# EAGLE library part 1G98 (library ic-TI)
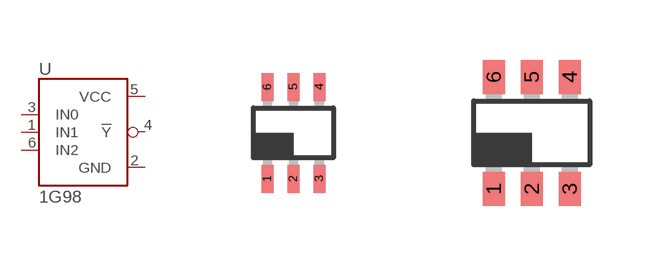
[diagram p51: symbol with the pads of SC70-6; footprints SC70-6, SOT23-6]

Designator prefix U

## 1G98DCK  [SC70-6]
1  IN1
2  GND
3  IN0
4  !Y
5  VCC
6  IN2

## 1G98DBV  [SOT23-6]
Pads as for SC70-6

## Footprint SC70-6 (pad centres in mm)
smd 0.3 x 0.7: 1 -0.65,-1.15; 2 0,-1.15; 3 0.65,-1.15; 4 0.65,1.15; 5 0,1.15; 6 -0.65,1.15

## Footprint SOT23-6 (pad centres in mm)
smd 0.55 x 0.85: 1 -0.95,-1.4; 2 0,-1.4; 3 0.95,-1.4; 4 0.95,1.4; 5 0,1.4; 6 -0.95,1.4